# Altium footprint library hirose_dm3bt.PcbLib: 1 footprints
Each footprint in its own frame and in the unit in brackets; x right, y up, seen from the top. Pads: shape width x height; smd on the part's side, far side on the other; paste and mask are expansions set on the pad; w line width, h text height; cw(c..) or ccw(c..) is an arc to the next point about the centre after c.
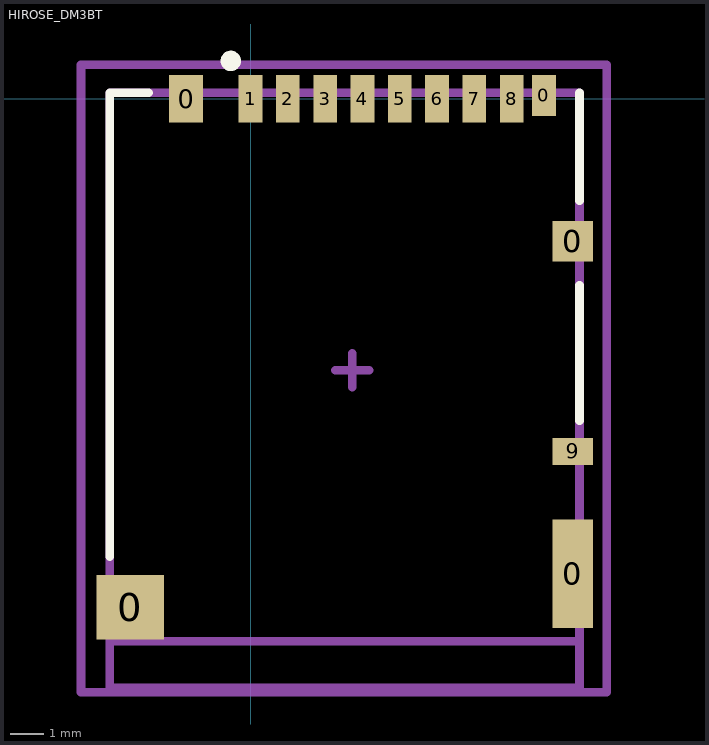
[diagram p0: the footprint, top view; thin cyan lines are the x and y axes]

## HIROSE_DM3BT [mm]
height 2.38
pads (14):
  rect 2x1.9 smd: 0(-3.55,-15)
  rect 1x1.4 smd: 0(-1.9,0)
  rect 0.7x1.2 smd: 0(8.65,0.1)
  rect 1.2x3.2 smd: 0(9.5,-14)
  rect 1.2x1.2 smd: 0(9.5,-4.2)
  rect 0.7x1.4 smd: 1(0,0) 2(1.1,0) 3(2.2,0) 4(3.3,0) 5(4.4,0) 6(5.5,0) 7(6.6,0) 8(7.7,0)
  rect 1.2x0.8 smd: 9(9.5,-10.4)
Top Overlay:
  circle w0.3: c-0.584,1.118 r0.15
  lines w0.254: -4.15,-13.5 -4.15,0.175 -3,0.175 ; 9.7,-9.5 9.7,-5.5 ; 9.7,-3 9.7,0.175
Top 3D Body (Mech13):
  lines w0.254: -4.15,-16 9.7,-16 ; -4.15,-17.375 9.7,-17.375 9.7,0.175 -4.15,0.175 -4.15,-17.375
  text "Board edge" at -1,-15.5 h2.03
Top Courtyard:
  lines w0.254: 2.5,-8 3.5,-8 ; 3,-8.5 3,-7.5 ; -5,-17.5 10.5,-17.5 10.5,1 -5,1 -5,-17.5
3D body "sdcard.STEP": height 1.83, standoff 0, extent -4.15,-17.375 9.7,0.175